# EAGLE library part XC3SE/CP132 (library Xilinx)
Xilinx Spartan 3E in a CP132 package
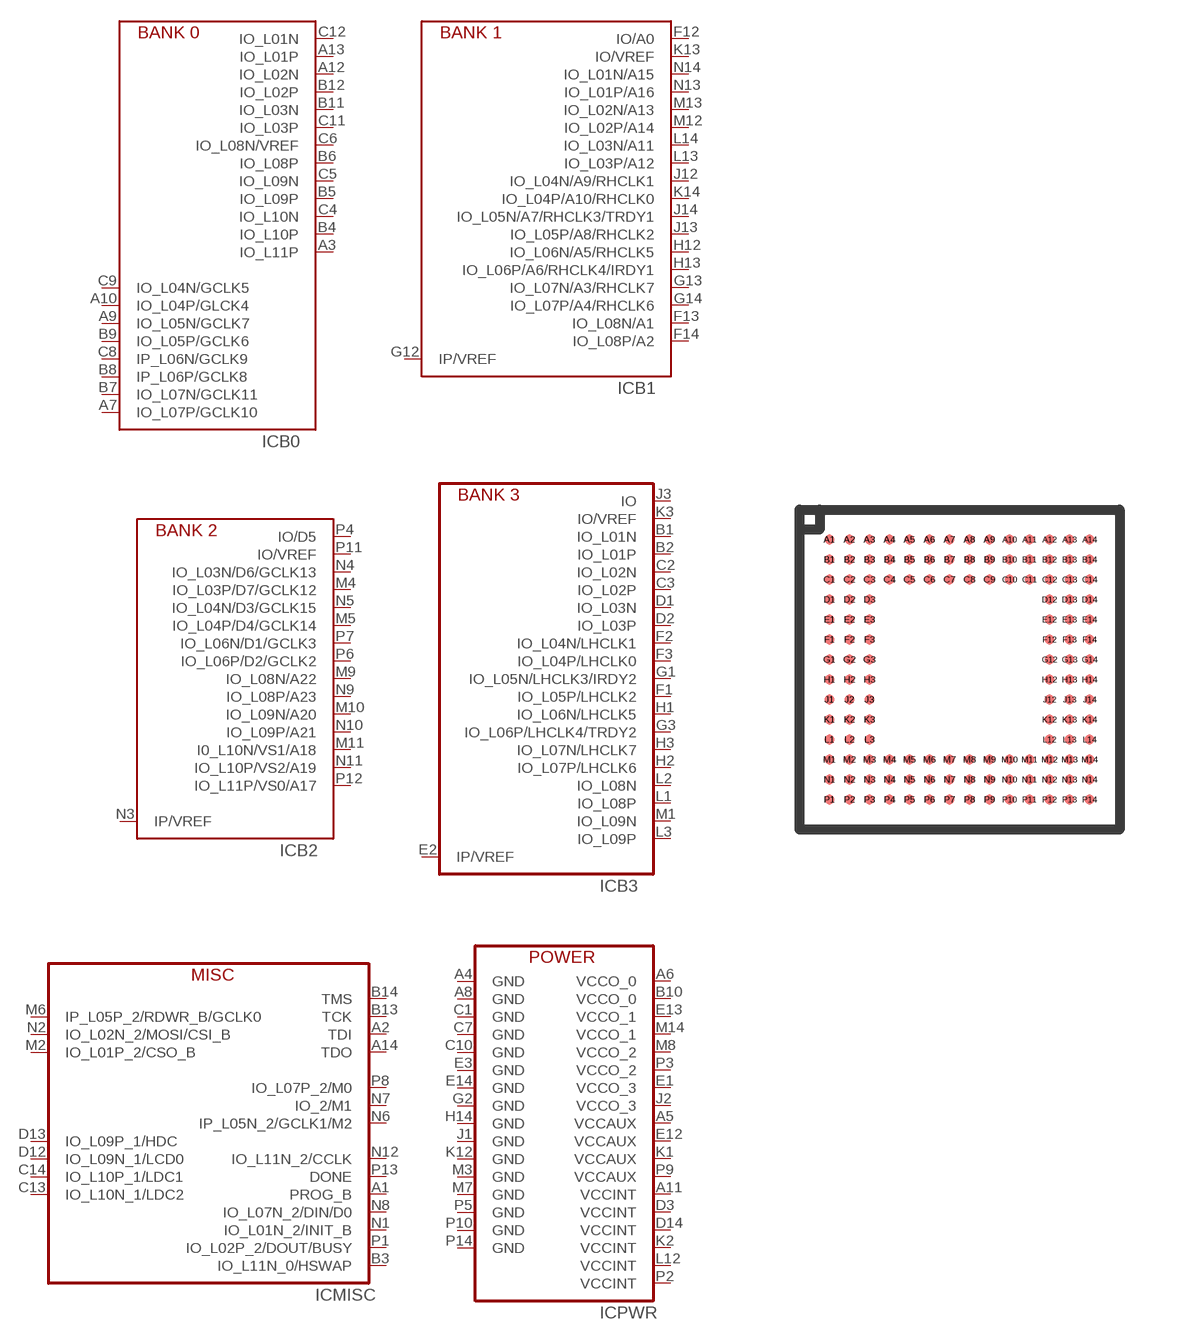
[diagram p41: symbol with the pads of CP132; footprint CP132]

Designator prefix IC; gates B0=XC3SE/CP132-B0 B2=XC3SE/CP132-B2 B3=XC3SE/CP132-B3 MISC=XC3SE/CP132-MISC PWR=XC3SE/CP132-PWR B1=XC3SE/CP132-B1

## XC3SE/CP132  [CP132]
A1  MISC:PROG_B  in
A2  MISC:TDI  in
A3  B0:IO_L11P
A4  PWR:GND  pwr
A5  PWR:VCCAUX  pwr
A6  PWR:VCCO_0  pwr
A7  B0:IO_L07P/GCLK10
A8  PWR:GND  pwr
A9  B0:IO_L05N/GCLK7
A10  B0:IO_L04P/GLCK4
A11  PWR:VCCINT  pwr
A12  B0:IO_L02N
A13  B0:IO_L01P
A14  MISC:TDO  out
B1  B3:IO_L01N
B2  B3:IO_L01P
B3  MISC:IO_L11N_0/HSWAP
B4  B0:IO_L10P
B5  B0:IO_L09P
B6  B0:IO_L08P
B7  B0:IO_L07N/GCLK11
B8  B0:IP_L06P/GCLK8  in
B9  B0:IO_L05P/GCLK6
B10  PWR:VCCO_0  pwr
B11  B0:IO_L03N
B12  B0:IO_L02P
B13  MISC:TCK  in
B14  MISC:TMS  in
C1  PWR:GND  pwr
C2  B3:IO_L02N
C3  B3:IO_L02P
C4  B0:IO_L10N
C5  B0:IO_L09N
C6  B0:IO_L08N/VREF
C7  PWR:GND  pwr
C8  B0:IP_L06N/GCLK9  in
C9  B0:IO_L04N/GCLK5
C10  PWR:GND  pwr
C11  B0:IO_L03P
C12  B0:IO_L01N
C13  MISC:IO_L10N_1/LDC2
C14  MISC:IO_L10P_1/LDC1
D1  B3:IO_L03N
D2  B3:IO_L03P
D3  PWR:VCCINT  pwr
D12  MISC:IO_L09N_1/LCD0
D13  MISC:IO_L09P_1/HDC
D14  PWR:VCCINT  pwr
E1  PWR:VCCO_3  pwr
E2  B3:IP/VREF  in
E3  PWR:GND  pwr
E12  PWR:VCCAUX  pwr
E13  PWR:VCCO_1  pwr
E14  PWR:GND  pwr
F1  B3:IO_L05P/LHCLK2
F2  B3:IO_L04N/LHCLK1
F3  B3:IO_L04P/LHCLK0
F12  B1:IO/A0
F13  B1:IO_L08N/A1
F14  B1:IO_L08P/A2
G1  B3:IO_L05N/LHCLK3/IRDY2
G2  PWR:GND  pwr
G3  B3:IO_L06P/LHCLK4/TRDY2
G12  B1:IP/VREF  in
G13  B1:IO_L07N/A3/RHCLK7
G14  B1:IO_L07P/A4/RHCLK6
H1  B3:IO_L06N/LHCLK5
H2  B3:IO_L07P/LHCLK6
H3  B3:IO_L07N/LHCLK7
H12  B1:IO_L06N/A5/RHCLK5
H13  B1:IO_L06P/A6/RHCLK4/IRDY1
H14  PWR:GND  pwr
J1  PWR:GND  pwr
J2  PWR:VCCO_3  pwr
J3  B3:IO
J12  B1:IO_L04N/A9/RHCLK1
J13  B1:IO_L05P/A8/RHCLK2
J14  B1:IO_L05N/A7/RHCLK3/TRDY1
K1  PWR:VCCAUX  pwr
K2  PWR:VCCINT  pwr
K3  B3:IO/VREF
K12  PWR:GND  pwr
K13  B1:IO/VREF
K14  B1:IO_L04P/A10/RHCLK0
L1  B3:IO_L08P
L2  B3:IO_L08N
L3  B3:IO_L09P
L12  PWR:VCCINT  pwr
L13  B1:IO_L03P/A12
L14  B1:IO_L03N/A11
M1  B3:IO_L09N
M2  MISC:IO_L01P_2/CSO_B
M3  PWR:GND  pwr
M4  B2:IO_L03P/D7/GCLK12
M5  B2:IO_L04P/D4/GCLK14
M6  MISC:IP_L05P_2/RDWR_B/GCLK0  in
M7  PWR:GND  pwr
M8  PWR:VCCO_2  pwr
M9  B2:IO_L08N/A22
M10  B2:IO_L09N/A20
M11  B2:I0_L10N/VS1/A18
M12  B1:IO_L02P/A14
M13  B1:IO_L02N/A13
M14  PWR:VCCO_1  pwr
N1  MISC:IO_L01N_2/INIT_B
N2  MISC:IO_L02N_2/MOSI/CSI_B
N3  B2:IP/VREF  in
N4  B2:IO_L03N/D6/GCLK13
N5  B2:IO_L04N/D3/GCLK15
N6  MISC:IP_L05N_2/GCLK1/M2  in
N7  MISC:IO_2/M1
N8  MISC:IO_L07N_2/DIN/D0
N9  B2:IO_L08P/A23
N10  B2:IO_L09P/A21
N11  B2:IO_L10P/VS2/A19
N12  MISC:IO_L11N_2/CCLK
N13  B1:IO_L01P/A16
N14  B1:IO_L01N/A15
P1  MISC:IO_L02P_2/DOUT/BUSY
P2  PWR:VCCINT  pwr
P3  PWR:VCCO_2  pwr
P4  B2:IO/D5
P5  PWR:GND  pwr
P6  B2:IO_L06P/D2/GCLK2
P7  B2:IO_L06N/D1/GCLK3
P8  MISC:IO_L07P_2/M0
P9  PWR:VCCAUX  pwr
P10  PWR:GND  pwr
P11  B2:IO/VREF
P12  B2:IO_L11P/VS0/A17  in
P13  MISC:DONE  out
P14  PWR:GND  pwr

## Footprint CP132 (pad centres in mm)
Xilinx CP132 BGA package
smd 0.25 x 0.25: A1 -3.25,3.25; A2 -2.75,3.25; A3 -2.25,3.25; A4 -1.75,3.25; A5 -1.25,3.25; A6 -0.75,3.25; A7 -0.25,3.25; A8 0.25,3.25; A9 0.75,3.25; A10 1.25,3.25; A11 1.75,3.25; A12 2.25,3.25; A13 2.75,3.25; A14 3.25,3.25; B1 -3.25,2.75; B2 -2.75,2.75; B3 -2.25,2.75; B4 -1.75,2.75; B5 -1.25,2.75; B6 -0.75,2.75; B7 -0.25,2.75; B8 0.25,2.75; B9 0.75,2.75; B10 1.25,2.75; B11 1.75,2.75; B12 2.25,2.75; B13 2.75,2.75; B14 3.25,2.75; C1 -3.25,2.25; C2 -2.75,2.25; C3 -2.25,2.25; C4 -1.75,2.25; C5 -1.25,2.25; C6 -0.75,2.25; C7 -0.25,2.25; C8 0.25,2.25; C9 0.75,2.25; C10 1.25,2.25; C11 1.75,2.25; C12 2.25,2.25; C13 2.75,2.25; C14 3.25,2.25; D1 -3.25,1.75; D2 -2.75,1.75; D3 -2.25,1.75; D12 2.25,1.75; D13 2.75,1.75; D14 3.25,1.75; E1 -3.25,1.25; E2 -2.75,1.25; E3 -2.25,1.25; E12 2.25,1.25; E13 2.75,1.25; E14 3.25,1.25; F1 -3.25,0.75; F2 -2.75,0.75; F3 -2.25,0.75; F12 2.25,0.75; F13 2.75,0.75; F14 3.25,0.75; G1 -3.25,0.25; G2 -2.75,0.25; G3 -2.25,0.25; G12 2.25,0.25; G13 2.75,0.25; G14 3.25,0.25; H1 -3.25,-0.25; H2 -2.75,-0.25; H3 -2.25,-0.25; H12 2.25,-0.25; H13 2.75,-0.25; H14 3.25,-0.25; J1 -3.25,-0.75; J2 -2.75,-0.75; J3 -2.25,-0.75; J12 2.25,-0.75; J13 2.75,-0.75; J14 3.25,-0.75; K1 -3.25,-1.25; K2 -2.75,-1.25; K3 -2.25,-1.25; K12 2.25,-1.25; K13 2.75,-1.25; K14 3.25,-1.25; L1 -3.25,-1.75; L2 -2.75,-1.75; L3 -2.25,-1.75; L12 2.25,-1.75; L13 2.75,-1.75; L14 3.25,-1.75; M1 -3.25,-2.25; M2 -2.75,-2.25; M3 -2.25,-2.25; M4 -1.75,-2.25; M5 -1.25,-2.25; M6 -0.75,-2.25; M7 -0.25,-2.25; M8 0.25,-2.25; M9 0.75,-2.25; M10 1.25,-2.25; M11 1.75,-2.25; M12 2.25,-2.25; M13 2.75,-2.25; M14 3.25,-2.25; N1 -3.25,-2.75; N2 -2.75,-2.75; N3 -2.25,-2.75; N4 -1.75,-2.75; N5 -1.25,-2.75; N6 -0.75,-2.75; N7 -0.25,-2.75; N8 0.25,-2.75; N9 0.75,-2.75; N10 1.25,-2.75; N11 1.75,-2.75; N12 2.25,-2.75; N13 2.75,-2.75; N14 3.25,-2.75; P1 -3.25,-3.25; P2 -2.75,-3.25; P3 -2.25,-3.25; P4 -1.75,-3.25; P5 -1.25,-3.25; P6 -0.75,-3.25; P7 -0.25,-3.25; P8 0.25,-3.25; P9 0.75,-3.25; P10 1.25,-3.25; P11 1.75,-3.25; P12 2.25,-3.25; P13 2.75,-3.25; P14 3.25,-3.25